# EAGLE library part HEADER-2X3P (library Connector)
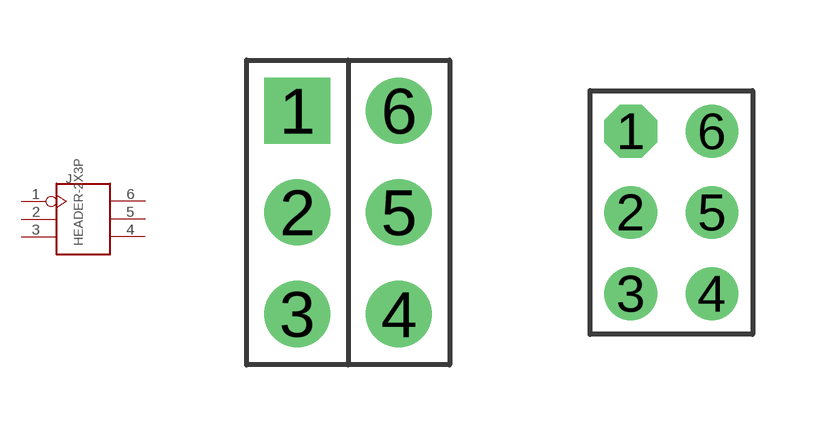
[diagram p26: symbol with the pads of 2X3P-2.54; footprints 2X3P-2.54, 2X3P-2.0]

Designator prefix J

## HEADER-2X3P-2.54  [2X3P-2.54]
1  1
2  2
3  3
4  4
5  5
6  6

## HEADER-2X3P-2.0  [2X3P-2.0]
Pads as for 2X3P-2.54

## HEADER-2X3P-SMD  [2X3P-2.54-SMD]
Pads as for 2X3P-2.54

## HEADER-2X3P-65/35MIL  [2X3P-2.54-65/35MIL]
Pads as for 2X3P-2.54

## HEADER-2X3P-2.0-SMD  [2X3P-2.0-SMD]
Pads as for 2X3P-2.54

## Footprint 2X3P-2.54 (pad centres in mm)
drill 0.889 pad 1.651 square: 1 -1.27,2.54
drill 0.889 pad 1.651: 2 -1.27,0; 3 -1.27,-2.54; 4 1.27,-2.54; 5 1.27,0; 6 1.27,2.54

## Footprint 2X3P-2.0 (pad centres in mm)
drill 0.813 pad 1.27 octagon: 1 -1.016,2.032
drill 0.813 pad 1.27: 2 -1.016,0; 3 -1.016,-2.032; 4 1.016,-2.032; 5 1.016,0; 6 1.016,2.032

## Footprint 2X3P-2.54-SMD (pad centres in mm)
smd 2.54 x 1.524: 1 -2.794,2.54; 2 -2.794,0; 3 -2.794,-2.54; 4 2.794,-2.54; 5 2.794,0; 6 2.794,2.54

## Footprint 2X3P-2.54-65/35MIL (pad centres in mm)
drill 0.889 pad 1.651 square: 1 -1.27,2.54
drill 0.889 pad 1.651: 2 -1.27,0; 3 -1.27,-2.54; 4 1.27,-2.54; 5 1.27,0; 6 1.27,2.54

## Footprint 2X3P-2.0-SMD (pad centres in mm)
smd 2.032 x 1.27: 1 -2.286,2.032; 2 -2.286,0; 3 -2.286,-2.032; 4 2.286,-2.032; 5 2.286,0; 6 2.286,2.032